# Altium schematic symbol library Battery.SchLib: 1 symbol
Pins are listed as number, name and electrical type; pins without a type are passive.

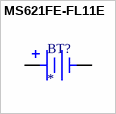
[diagram p0: symbol MS621FE-FL11E]

## MS621FE-FL11E
designator BT?
MS621FE-FL11E Coin Cell, Lithium, 5.5MAH, 3V Rechargeable Rohs; Manufacturer: Seiko; Number of Cells: 1; Battery Size: 621; Battery Type: SECONDARY; Outside Diameter: 6.8mm; Lead Length: 1.7mm; Supplier 1: Mouser; Manufacturer Part Number: MS621FE-FL11E; RoHS: Yes; Category: Batteries and Accessories; Stock 1: 1781; Pricing 1: 1=2,19, 10=1,82, 50=1,6, 100=1,43, 1000=1,18, 10000=1,1 (USD); Pins: 2; Weight: 0.23g; Min Operating Temperature: -20°C; Max Operating Temperature: 60°C; Capacity: 5.5mAh; Chemistry/Technology: Lithium; Output Voltage: 3V; Package Quantity: 100; Packaging: Tray; Voltage Rating: 3V; Termination: SMD/SMT; Voltage: 3V; Series: MS621FE; Battery Chemistry: LITHIUM; Orientation: Vertical; Diameter: 6.8mm; Width: 6.8mm; Height: 2.1mm; Radiation Hardening: No; Reach SVHC Compliant: Yes; ComponentLink1URL: http://www.onlinecomponents.com/productFiles/mf-SIB/file_product_master_50112_title_imagesp.pdf?src-supplier=Onlinecomponents.com; ComponentLink1Description: http://www.onlinecomponents.com/productFiles/mf-SIB/file_product_master_50112_title_imagesp.pdf?src-supplier=Onlinecomponents.com; ComponentLink2URL: http://www.farnell.com/datasheets/2700315.pdf?src-supplier=Farnell; ComponentLink2Description: http://www.farnell.com/datasheets/2700315.pdf?src-supplier=Farnell; ComponentLink3URL: http://www.farnell.com/datasheets/2700315.pdf?src-supplier=Element14; ComponentLink3Description: http://www.farnell.com/datasheets/2700315.pdf?src-supplier=Element14; ComponentLink4URL: http://www.onlinecomponents.com/datasheet/ms621fefl11e.aspx?p=12337810&src-supplier=Onlinecomponents.com; ComponentLink4Description: http://www.onlinecomponents.com/datasheet/ms621fefl11e.aspx?p=12337810&src-supplier=Onlinecomponents.com; ComponentLink5URL: http://www.sii.co.jp/en/me/datasheets/ms-rechargeable/ms621fe/?src-supplier=Mouser; ComponentLink5Description: http://www.sii.co.jp/en/me/datasheets/ms-rechargeable/ms621fe/?src-supplier=Mouser; ComponentLink6URL: https://www.sii.co.jp/en/me/files/2018/04/MicroBattery_catalogue_E_2018_forWeb.pdf?src-supplier=Digi-Key; ComponentLink6Description: https://www.sii.co.jp/en/me/files/2018/04/MicroBattery_catalogue_E_2018_forWeb.pdf?src-supplier=Digi-Key; ComponentLink7URL: http://speed.sii.co.jp/data/file_PRODUCT_MASTER_50112_TITLE_IMAGESP.pdf?src-supplier=Avnet; ComponentLink7Description: http://speed.sii.co.jp/data/file_PRODUCT_MASTER_50112_TITLE_IMAGESP.pdf?src-supplier=Avnet; ComponentLink8URL: https://datasheet.octopart.com/MS621FE-FL11E-Seiko-datasheet-154792866.pdf?src-supplier=Master+Electronics; ComponentLink8Description: https://datasheet.octopart.com/MS621FE-FL11E-Seiko-datasheet-154792866.pdf?src-supplier=Master+Electronics; Supplier Part Number 1: 628-MS621FE-FL11E
footprint BAT_MS621FE-FL11E
pins: NEG, POS